# Altium schematic symbol library ADP3110A.SchLib: 1 symbol
Pins are listed as number, name and electrical type; pins without a type are passive.

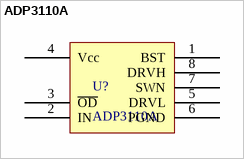
[diagram p0: symbol ADP3110A]

## ADP3110A
designator U?
footprint SOIC127P600-8BM (SOIC, 8-Leads, Body 4.9x3.9mm, Pitch 1.27mm, IPC Low Density)
pins: 1 BST, 2 IN, 3 ~{OD}, 4 Vcc, 5 DRVL, 6 PGND, 7 SWN, 8 DRVH